# Altium schematic symbol library IC. USB Hub.SchLib: 1 symbol
Pins are listed as number, name and electrical type; pins without a type are passive.

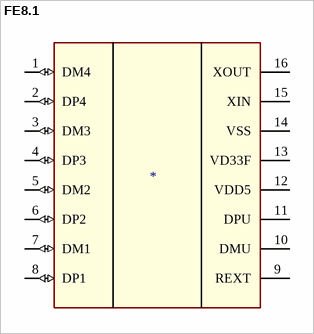
[diagram p0: symbol FE8.1]

## FE8.1
designator D?
footprint 16-SSOP (pitch 0.635 mm)
pins: 1 DM4 (io), 2 DP4 (io), 3 DM3 (io), 4 DP3 (io), 5 DM2 (io), 6 DP2 (io), 7 DM1 (io), 8 DP1 (io), 9 REXT, 10 DMU, 11 DPU, 12 VDD5, 13 VD33F, 14 VSS, 15 XIN, 16 XOUT